# Altium footprint library LAN7800Y9X.PcbLib: 3 footprints
Each footprint in its own frame and in the unit in brackets; x right, y up, seen from the top. Pads: shape width x height; smd on the part's side, far side on the other; paste and mask are expansions set on the pad; w line width, h text height; cw(c..) or ccw(c..) is an arc to the next point about the centre after c.
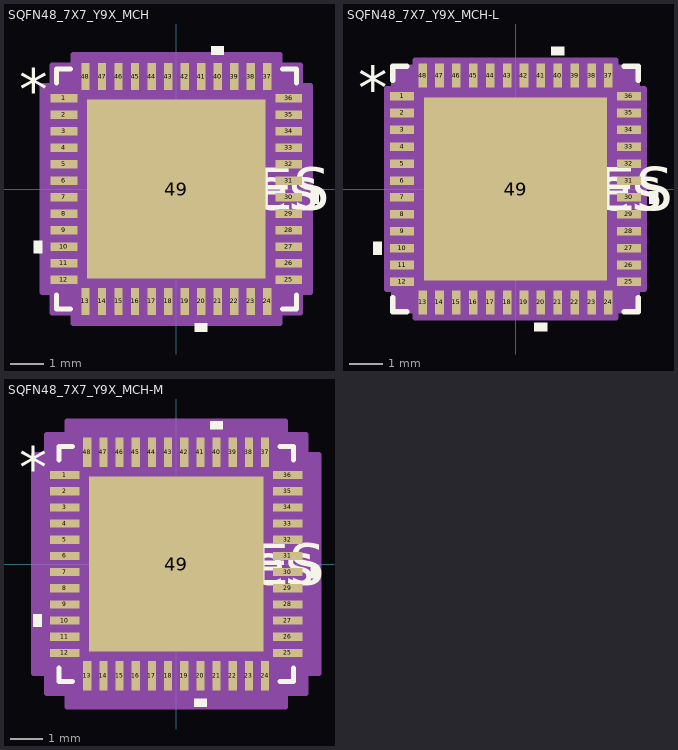
[diagram p0: the footprints below, top view; thin cyan lines are the x and y axes]

## SQFN48_7X7_Y9X_MCH [mil]
pads (49):
  rect 32x10 smd paste+0 mask+0: 1(-134,108.27) 2(-134,88.58) 3(-134,68.9) 4(-134,49.21) 5(-134,29.53) 6(-134,9.84) 7(-134,-9.84) 8(-134,-29.53) 9(-134,-49.21) 10(-134,-68.9) 11(-134,-88.58) 12(-134,-108.27) 25(134,-108.27) 26(134,-88.58) 27(134,-68.9) 28(134,-49.21) 29(134,-29.53) 30(134,-9.84) 31(134,9.84) 32(134,29.53) 33(134,49.21) 34(134,68.9) 35(134,88.58) 36(134,108.27)
  rect 10x32 smd paste+0 mask+0: 13(-108.27,-134) 14(-88.58,-134) 15(-68.9,-134) 16(-49.21,-134) 17(-29.53,-134) 18(-9.84,-134) 19(9.84,-134) 20(29.53,-134) 21(49.21,-134) 22(68.9,-134) 23(88.58,-134) 24(108.27,-134) 37(108.27,134) 38(88.58,134) 39(68.9,134) 40(49.21,134) 41(29.53,134) 42(9.84,134) 43(-9.84,134) 44(-29.53,134) 45(-49.21,134) 46(-68.9,134) 47(-88.58,134) 48(-108.27,134)
  rect 213x213 smd paste-106.5 mask+0: 49(0,0)
Top Overlay:
  region: -160,-61.4 -170,-61.4 -170,-76.4 -160,-76.4
  region: 37.03,-160 22.03,-160 22.03,-170 37.03,-170
  region: 160,-2.34 170,-2.34 170,-17.34 160,-17.34
  region: 56.71,160 41.71,160 41.71,170 56.71,170
  lines w6: -143,-126.37 -143,-143 -126.37,-143 ; -143,126.37 -143,143 -126.37,143 ; 126.37,-143 143,-143 143,-126.37 ; 126.37,143 143,143 143,126.37
  text "*" at -187.5,93.11 h50
  text "RefDes" at -75,-25 h50
  text "REFDES" at -87.5,-25 h50
Top Paste:
  region: -57.19,102.56 -102.56,102.56 -102.56,57.19 -57.19,57.19
  region: -57.19,49.31 -102.56,49.31 -102.56,3.94 -57.19,3.94
  region: -57.19,-3.94 -102.56,-3.94 -102.56,-49.31 -57.19,-49.31
  region: -57.19,-57.19 -102.56,-57.19 -102.56,-102.56 -57.19,-102.56
  region: -3.94,102.56 -49.31,102.56 -49.31,57.19 -3.94,57.19
  region: -3.94,49.31 -49.31,49.31 -49.31,3.94 -3.94,3.94
  region: -3.94,-3.94 -49.31,-3.94 -49.31,-49.31 -3.94,-49.31
  region: -3.94,-57.19 -49.31,-57.19 -49.31,-102.56 -3.94,-102.56
  region: 49.31,102.56 3.94,102.56 3.94,57.19 49.31,57.19
  region: 49.31,49.31 3.94,49.31 3.94,3.94 49.31,3.94
  region: 49.31,-3.94 3.94,-3.94 3.94,-49.31 49.31,-49.31
  region: 49.31,-57.19 3.94,-57.19 3.94,-102.56 49.31,-102.56
  region: 102.56,102.56 57.19,102.56 57.19,57.19 102.56,57.19
  region: 102.56,49.31 57.19,49.31 57.19,3.94 102.56,3.94
  region: 102.56,-3.94 57.19,-3.94 57.19,-49.31 102.56,-49.31
  region: 102.56,-57.19 57.19,-57.19 57.19,-102.56 102.56,-102.56
Mechanical 13:
  drawing of 201 lines, arcs and shapes, not listed
  text "*" at -130.5,93.11 h50
  text "RefDes2" at -87.5,-25 h50
Mechanical 15:
  region: -123.27,-148 -148,-148 -148,-123.27 -160,-123.27 -160,123.27 -148,123.27 -148,148 -123.27,148 -123.27,160 123.27,160 123.27,148 148,148 148,123.27 160,123.27 160,-123.27 148,-123.27 148,-148 123.27,-148 123.27,-160 -123.27,-160
  lines w6: -160,-123.27 -148,-123.27 -148,-148 -123.27,-148 -123.27,-160 123.27,-160 123.27,-148 148,-148 148,-123.27 160,-123.27 160,123.27 148,123.27 148,148 123.27,148 123.27,160 -123.27,160 -123.27,148 -148,148 -148,123.27 -160,123.27 -160,-123.27
3D body "SQFN48_7X7_Y9X_MCH.step": height 39.09, standoff 0, extent -137.99,-137.99 137.99,137.99

## SQFN48_7X7_Y9X_MCH-L [mil]
pads (49):
  rect 28x10 smd paste+0 mask+0: 1(-132,108.27) 2(-132,88.58) 3(-132,68.9) 4(-132,49.21) 5(-132,29.53) 6(-132,9.84) 7(-132,-9.84) 8(-132,-29.53) 9(-132,-49.21) 10(-132,-68.9) 11(-132,-88.58) 12(-132,-108.27) 25(132,-108.27) 26(132,-88.58) 27(132,-68.9) 28(132,-49.21) 29(132,-29.53) 30(132,-9.84) 31(132,9.84) 32(132,29.53) 33(132,49.21) 34(132,68.9) 35(132,88.58) 36(132,108.27)
  rect 10x28 smd paste+0 mask+0: 13(-108.27,-132) 14(-88.58,-132) 15(-68.9,-132) 16(-49.21,-132) 17(-29.53,-132) 18(-9.84,-132) 19(9.84,-132) 20(29.53,-132) 21(49.21,-132) 22(68.9,-132) 23(88.58,-132) 24(108.27,-132) 37(108.27,132) 38(88.58,132) 39(68.9,132) 40(49.21,132) 41(29.53,132) 42(9.84,132) 43(-9.84,132) 44(-29.53,132) 45(-49.21,132) 46(-68.9,132) 47(-88.58,132) 48(-108.27,132)
  rect 213x213 smd paste-106.5 mask+0: 49(0,0)
Top Overlay:
  region: -156,-61.4 -166,-61.4 -166,-76.4 -156,-76.4
  region: 37.03,-156 22.03,-156 22.03,-166 37.03,-166
  region: 156,-2.34 166,-2.34 166,-17.34 156,-17.34
  region: 56.71,156 41.71,156 41.71,166 56.71,166
  lines w6: -143,-126.37 -143,-143 -126.37,-143 ; -143,126.37 -143,143 -126.37,143 ; 126.37,-143 143,-143 143,-126.37 ; 126.37,143 143,143 143,126.37
  text "*" at -183.5,93.11 h50
  text "RefDes" at -75,-25 h50
  text "REFDES" at -87.5,-25 h50
Top Paste:
  region: -57.19,102.56 -102.56,102.56 -102.56,57.19 -57.19,57.19
  region: -57.19,49.31 -102.56,49.31 -102.56,3.94 -57.19,3.94
  region: -57.19,-3.94 -102.56,-3.94 -102.56,-49.31 -57.19,-49.31
  region: -57.19,-57.19 -102.56,-57.19 -102.56,-102.56 -57.19,-102.56
  region: -3.94,102.56 -49.31,102.56 -49.31,57.19 -3.94,57.19
  region: -3.94,49.31 -49.31,49.31 -49.31,3.94 -3.94,3.94
  region: -3.94,-3.94 -49.31,-3.94 -49.31,-49.31 -3.94,-49.31
  region: -3.94,-57.19 -49.31,-57.19 -49.31,-102.56 -3.94,-102.56
  region: 49.31,102.56 3.94,102.56 3.94,57.19 49.31,57.19
  region: 49.31,49.31 3.94,49.31 3.94,3.94 49.31,3.94
  region: 49.31,-3.94 3.94,-3.94 3.94,-49.31 49.31,-49.31
  region: 49.31,-57.19 3.94,-57.19 3.94,-102.56 49.31,-102.56
  region: 102.56,102.56 57.19,102.56 57.19,57.19 102.56,57.19
  region: 102.56,49.31 57.19,49.31 57.19,3.94 102.56,3.94
  region: 102.56,-3.94 57.19,-3.94 57.19,-49.31 102.56,-49.31
  region: 102.56,-57.19 57.19,-57.19 57.19,-102.56 102.56,-102.56
Mechanical 13:
  drawing of 201 lines, arcs and shapes, not listed
  text "*" at -130.5,93.11 h50
  text "RefDes2" at -87.5,-25 h50
Mechanical 15:
  region: -117.27,-142 -142,-142 -142,-117.27 -150,-117.27 -150,117.27 -142,117.27 -142,142 -117.27,142 -117.27,150 117.27,150 117.27,142 142,142 142,117.27 150,117.27 150,-117.27 142,-117.27 142,-142 117.27,-142 117.27,-150 -117.27,-150
  lines w6: -150,-117.27 -142,-117.27 -142,-142 -117.27,-142 -117.27,-150 117.27,-150 117.27,-142 142,-142 142,-117.27 150,-117.27 150,117.27 142,117.27 142,142 117.27,142 117.27,150 -117.27,150 -117.27,142 -142,142 -142,117.27 -150,117.27 -150,-117.27
3D body "SQFN48_7X7_Y9X_MCH.step": height 39.09, standoff 0, extent -137.99,-137.99 137.99,137.99

## SQFN48_7X7_Y9X_MCH-M [mil]
pads (49):
  rect 36x10 smd paste+0 mask+0: 1(-136,108.27) 2(-136,88.58) 3(-136,68.9) 4(-136,49.21) 5(-136,29.53) 6(-136,9.84) 7(-136,-9.84) 8(-136,-29.53) 9(-136,-49.21) 10(-136,-68.9) 11(-136,-88.58) 12(-136,-108.27) 25(136,-108.27) 26(136,-88.58) 27(136,-68.9) 28(136,-49.21) 29(136,-29.53) 30(136,-9.84) 31(136,9.84) 32(136,29.53) 33(136,49.21) 34(136,68.9) 35(136,88.58) 36(136,108.27)
  rect 10x36 smd paste+0 mask+0: 13(-108.27,-136) 14(-88.58,-136) 15(-68.9,-136) 16(-49.21,-136) 17(-29.53,-136) 18(-9.84,-136) 19(9.84,-136) 20(29.53,-136) 21(49.21,-136) 22(68.9,-136) 23(88.58,-136) 24(108.27,-136) 37(108.27,136) 38(88.58,136) 39(68.9,136) 40(49.21,136) 41(29.53,136) 42(9.84,136) 43(-9.84,136) 44(-29.53,136) 45(-49.21,136) 46(-68.9,136) 47(-88.58,136) 48(-108.27,136)
  rect 213x213 smd paste-106.5 mask+0: 49(0,0)
Top Overlay:
  region: -164,-61.4 -174,-61.4 -174,-76.4 -164,-76.4
  region: 37.03,-164 22.03,-164 22.03,-174 37.03,-174
  region: 164,-2.34 174,-2.34 174,-17.34 164,-17.34
  region: 56.71,164 41.71,164 41.71,174 56.71,174
  lines w6: -143,-126.37 -143,-143 -126.37,-143 ; -143,126.37 -143,143 -126.37,143 ; 126.37,-143 143,-143 143,-126.37 ; 126.37,143 143,143 143,126.37
  text "*" at -191.5,93.11 h50
  text "RefDes" at -75,-25 h50
  text "REFDES" at -87.5,-25 h50
Top Paste:
  region: -57.19,102.56 -102.56,102.56 -102.56,57.19 -57.19,57.19
  region: -57.19,49.31 -102.56,49.31 -102.56,3.94 -57.19,3.94
  region: -57.19,-3.94 -102.56,-3.94 -102.56,-49.31 -57.19,-49.31
  region: -57.19,-57.19 -102.56,-57.19 -102.56,-102.56 -57.19,-102.56
  region: -3.94,102.56 -49.31,102.56 -49.31,57.19 -3.94,57.19
  region: -3.94,49.31 -49.31,49.31 -49.31,3.94 -3.94,3.94
  region: -3.94,-3.94 -49.31,-3.94 -49.31,-49.31 -3.94,-49.31
  region: -3.94,-57.19 -49.31,-57.19 -49.31,-102.56 -3.94,-102.56
  region: 49.31,102.56 3.94,102.56 3.94,57.19 49.31,57.19
  region: 49.31,49.31 3.94,49.31 3.94,3.94 49.31,3.94
  region: 49.31,-3.94 3.94,-3.94 3.94,-49.31 49.31,-49.31
  region: 49.31,-57.19 3.94,-57.19 3.94,-102.56 49.31,-102.56
  region: 102.56,102.56 57.19,102.56 57.19,57.19 102.56,57.19
  region: 102.56,49.31 57.19,49.31 57.19,3.94 102.56,3.94
  region: 102.56,-3.94 57.19,-3.94 57.19,-49.31 102.56,-49.31
  region: 102.56,-57.19 57.19,-57.19 57.19,-102.56 102.56,-102.56
Mechanical 13:
  drawing of 201 lines, arcs and shapes, not listed
  text "*" at -130.5,93.11 h50
  text "RefDes2" at -87.5,-25 h50
Mechanical 15:
  region: -133.27,-158 -158,-158 -158,-133.27 -174,-133.27 -174,133.27 -158,133.27 -158,158 -133.27,158 -133.27,174 133.27,174 133.27,158 158,158 158,133.27 174,133.27 174,-133.27 158,-133.27 158,-158 133.27,-158 133.27,-174 -133.27,-174
  lines w6: -174,-133.27 -158,-133.27 -158,-158 -133.27,-158 -133.27,-174 133.27,-174 133.27,-158 158,-158 158,-133.27 174,-133.27 174,133.27 158,133.27 158,158 133.27,158 133.27,174 -133.27,174 -133.27,158 -158,158 -158,133.27 -174,133.27 -174,-133.27
3D body "SQFN48_7X7_Y9X_MCH.step": height 39.09, standoff 0, extent -137.99,-137.99 137.99,137.99